# Altium schematic symbol library BreakoutAdapters.SchLib: 2 symbols
Pins are listed as number, name and electrical type; pins without a type are passive.

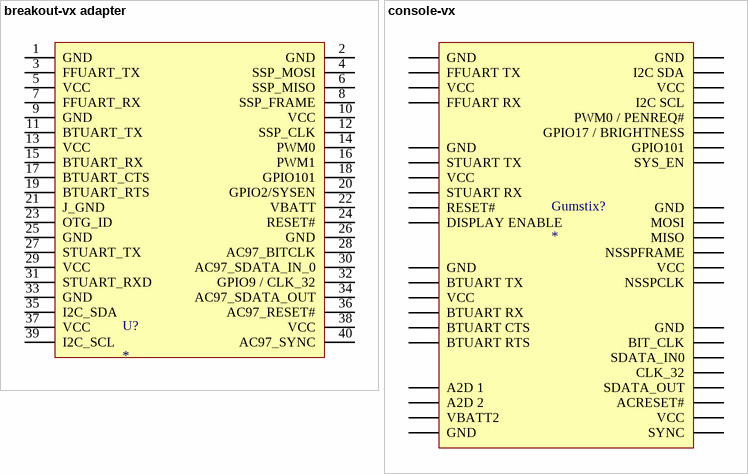
[diagram p0: symbols breakout-vx adapter to console-vx]

## breakout-vx adapter
designator U?
Breakout-VX Adapter
footprint Breakout-vx
pins: 1 GND, 2 GND, 3 FFUART_TX, 4 SSP_MOSI, 5 VCC, 6 SSP_MISO, 7 FFUART_RX, 8 SSP_FRAME, 9 GND, 10 VCC, 11 BTUART_TX, 12 SSP_CLK, 13 VCC, 14 PWM0, 15 BTUART_RX, 16 PWM1, 17 BTUART_CTS, 18 GPIO101, 19 BTUART_RTS, 20 GPIO2/SYSEN, 21 J_GND, 22 VBATT, 23 OTG_ID, 24 RESET#, 25 GND, 26 GND, 27 STUART_TX, 28 AC97_BITCLK, 29 VCC, 30 AC97_SDATA_IN_0, 31 STUART_RXD, 32 GPIO9 / CLK_32, 33 GND, 34 AC97_SDATA_OUT, 35 I2C_SDA, 36 AC97_RESET#, 37 VCC, 38 VCC, 39 I2C_SCL, 40 AC97_SYNC

## console-vx
designator Gumstix?
Console-VX Adapter
footprint CONSOLELCD-VX
pins: A2D 1, A2D 2, A2D 3 VBATT2, A2D 4 GND, AC97 1 GND, AC97 2 BIT_CLK, AC97 3 SDATA_IN0, AC97 4 CLK_32, AC97 5 SDATA_OUT, AC97 6 ACRESET#, AC97 7 VCC, AC97 8 SYNC, BTUART 1 GND, BTUART 2 BTUART TX, BTUART 3 VCC, BTUART 4 BTUART RX, BTUART 5 BTUART CTS, BTUART 6 BTUART RTS, FFUART 1 GND, FFUART 2 FFUART TX, FFUART 3 VCC, FFUART 4 FFUART RX, I2C 1 GND, I2C 2 I2C SDA, I2C 3 VCC, I2C 4 I2C SCL, I2C 5 PWM0 / PENREQ#, I2C 6 GPIO17 / BRIGHTNESS, I2C 7 GPIO101, I2C 8 SYS_EN, NSSP 1 GND, NSSP 2 MOSI, NSSP 3 MISO, NSSP 4 NSSPFRAME, NSSP 5 VCC, NSSP 6 NSSPCLK, STUART 1 GND, STUART 2 STUART TX, STUART 3 VCC, STUART 4 STUART RX, STUART 5 RESET#, STUART 6 DISPLAY ENABLE